# Altium schematic symbol library module_dc2dc_iso.SchLib: 183 symbols (part 2 of 2)
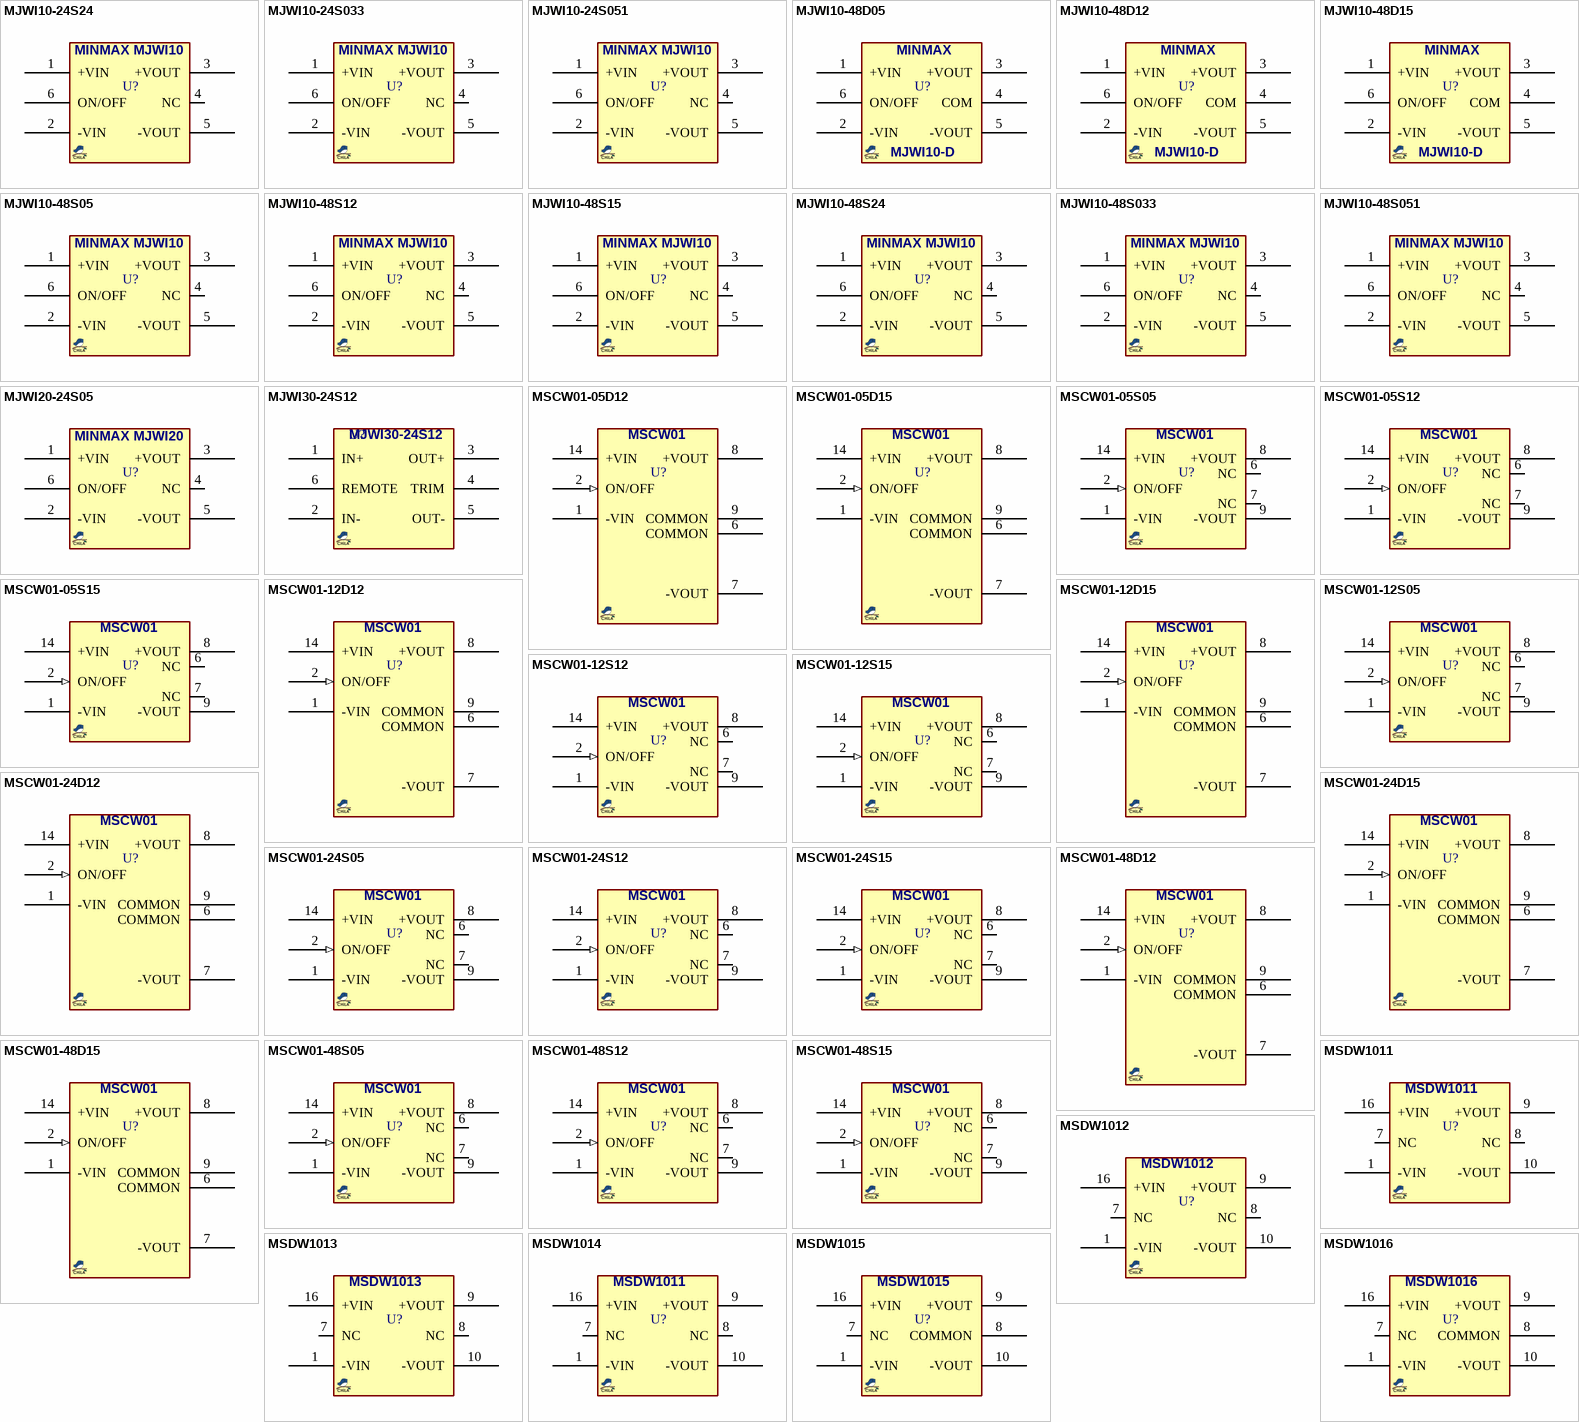
[diagram p5: symbols MJWI10-24S24 to MSDW1016]

## MJWI10-48S15
designator U?  (value not drawn)
DC-DC Converter, Isolated, 10W; MANF: MINMAX; PARAM2: 18~75(48)Vin, 15Vout, 10W; PARAM: 660mA, -40~80°C; DESC: https://www.minmax.com.tw/en/download/files/546/MJWI10_Datasheet.pdf; MANF_P#: MJWI10-48S15; VALUE: MJWI10-48S15
footprint MINMAX_MJWI10 (DC-DC Module, 25.4X25.4mm, =PDQ15-D)
pins: 1 +VIN, 2 -VIN, 3 +VOUT, 4 NC, 5 -VOUT, 6 ON/OFF
text: MINMAX MJWI10

## MJWI10-48S24
designator U?  (value not drawn)
DC-DC Converter, Isolated, 10W; MANF: MINMAX; PARAM2: 18~75(48)Vin, 24Vout, 10W; PARAM: 410mA, -40~80°C; DESC: https://www.minmax.com.tw/en/download/files/546/MJWI10_Datasheet.pdf; MANF_P#: MJWI10-48S24; VALUE: MJWI10-48S24
footprint MINMAX_MJWI10 (DC-DC Module, 25.4X25.4mm, =PDQ15-D)
pins: 1 +VIN, 2 -VIN, 3 +VOUT, 4 NC, 5 -VOUT, 6 ON/OFF
text: MINMAX MJWI10

## MJWI10-48S033
designator U?  (value not drawn)
DC-DC Converter, Isolated, 10W; MANF: MINMAX; PARAM2: 18~75(48)Vin, 3.3Vout, 10W; PARAM: 2200mA, -40~80°C; DESC: https://www.minmax.com.tw/en/download/files/546/MJWI10_Datasheet.pdf; MANF_P#: MJWI10-48S033; VALUE: MJWI10-48S033
footprint MINMAX_MJWI10 (DC-DC Module, 25.4X25.4mm, =PDQ15-D)
pins: 1 +VIN, 2 -VIN, 3 +VOUT, 4 NC, 5 -VOUT, 6 ON/OFF
text: MINMAX MJWI10

## MJWI10-48S051
designator U?  (value not drawn)
DC-DC Converter, Isolated, 10W; MANF: MINMAX; PARAM2: 18~75(48)Vin, 5.1Vout, 10W; PARAM: 2000mA, -40~80°C; DESC: https://www.minmax.com.tw/en/download/files/546/MJWI10_Datasheet.pdf; MANF_P#: MJWI10-48S051; VALUE: MJWI10-48S051
footprint MINMAX_MJWI10 (DC-DC Module, 25.4X25.4mm, =PDQ15-D)
pins: 1 +VIN, 2 -VIN, 3 +VOUT, 4 NC, 5 -VOUT, 6 ON/OFF
text: MINMAX MJWI10

## MJWI20-24S05
designator U?  (value not drawn)
DC-DC Converter, Isolated, 20W; MANF: MINMAX; PARAM2: 9~36(24)Vin, 5Vout, 20W; PARAM: 4000mA, -40~85°C; DESC: https://www.minmax.com.tw/en/download/files/601/MJWI20_Datasheet.pdf; MANF_P#: MJWI20-24S05; VALUE: MJWI20-24S05
footprint MINMAX_MJWI20 (DC-DC Module, 25.4X25.4mm, =PDQ15-D)
pins: 1 +VIN, 2 -VIN, 3 +VOUT, 4 NC, 5 -VOUT, 6 ON/OFF
text: MINMAX MJWI20

## MJWI30-24S12
designator U?  (value not drawn)
DC-DC Converter, Isolated, 30W, 9~36V IN; MANF: MINMAX; PARAM2: 9~36V IN, 12Vout, 30Watt; PARAM: 2.5A, –40~105°C; PRICE: 30$; MANF_P#: MJWI30-24S12; VALUE: MJWI30-24S12
footprint MINMAX_MJWI10 (DC-DC Module, 25.4X25.4mm, =PDQ15-D)
pins: 1 IN+ (power), 2 IN- (power), 3 OUT+ (power), 4 TRIM, 5 OUT- (power), 6 REMOTE

## MSCW01-05D12
designator U?  (value not drawn)
DC-DC Converter, Isolated, 1W; MANF: MinMax; PARAM2: 4.5~9(5)Vin, ±12Vout, 1W; PARAM: ±42mA, -40~85°C; DESC: https://www.minmax.com.tw/en/download/files/354/MSCW01_Datasheet.pdf; MANF_P#: MSCW01-05D12; VALUE: MSCW01-05D12
footprint MINMAX_MSCW01 (DC-DC Module, MINMAX MSCW01)
pins: 1 -VIN, 2 ON/OFF (in), 6 COMMON, 7 -VOUT, 8 +VOUT, 9 COMMON, 14 +VIN
text: MSCW01

## MSCW01-05D15
designator U?  (value not drawn)
DC-DC Converter, Isolated, 1W; MANF: MinMax; PARAM2: 4.5~9(5)Vin, ±15Vout, 1W; PARAM: ±33mA, -40~85°C; DESC: https://www.minmax.com.tw/en/download/files/354/MSCW01_Datasheet.pdf; MANF_P#: MSCW01-05D15; VALUE: MSCW01-05D15
footprint MINMAX_MSCW01 (DC-DC Module, MINMAX MSCW01)
pins: 1 -VIN, 2 ON/OFF (in), 6 COMMON, 7 -VOUT, 8 +VOUT, 9 COMMON, 14 +VIN
text: MSCW01

## MSCW01-05S05
designator U?  (value not drawn)
DC-DC Converter, Isolated, 1W; MANF: MinMax; PARAM2: 4.5~9(5)Vin, 5Vout, 1W; PARAM: 200mA, -40~85°C; DESC: https://www.minmax.com.tw/en/download/files/354/MSCW01_Datasheet.pdf; MANF_P#: MSCW01-05S05; VALUE: MSCW01-05S05
footprint MINMAX_MSCW01 (DC-DC Module, MINMAX MSCW01)
pins: 1 -VIN, 2 ON/OFF (in), 6 NC, 7 NC, 8 +VOUT, 9 -VOUT, 14 +VIN
text: MSCW01

## MSCW01-05S12
designator U?  (value not drawn)
DC-DC Converter, Isolated, 1W; MANF: MinMax; PARAM2: 4.5~9(5)Vin, 12Vout, 1W; PARAM: 83mA, -40~85°C; DESC: https://www.minmax.com.tw/en/download/files/354/MSCW01_Datasheet.pdf; MANF_P#: MSCW01-05S12; VALUE: MSCW01-05S12
footprint MINMAX_MSCW01 (DC-DC Module, MINMAX MSCW01)
pins: 1 -VIN, 2 ON/OFF (in), 6 NC, 7 NC, 8 +VOUT, 9 -VOUT, 14 +VIN
text: MSCW01

## MSCW01-05S15
designator U?  (value not drawn)
DC-DC Converter, Isolated, 1W; MANF: MinMax; PARAM2: 4.5~9(5)Vin, 15Vout, 1W; PARAM: 67mA, -40~85°C; DESC: https://www.minmax.com.tw/en/download/files/354/MSCW01_Datasheet.pdf; MANF_P#: MSCW01-05S15; VALUE: MSCW01-05S15
footprint MINMAX_MSCW01 (DC-DC Module, MINMAX MSCW01)
pins: 1 -VIN, 2 ON/OFF (in), 6 NC, 7 NC, 8 +VOUT, 9 -VOUT, 14 +VIN
text: MSCW01

## MSCW01-12D12
designator U?  (value not drawn)
DC-DC Converter, Isolated, 1W; MANF: MinMax; PARAM2: 9~18(12)Vin, ±12Vout, 1W; PARAM: ±42mA, -40~85°C; DESC: https://www.minmax.com.tw/en/download/files/354/MSCW01_Datasheet.pdf; MANF_P#: MSCW01-12D12; VALUE: MSCW01-12D12
footprint MINMAX_MSCW01 (DC-DC Module, MINMAX MSCW01)
pins: 1 -VIN, 2 ON/OFF (in), 6 COMMON, 7 -VOUT, 8 +VOUT, 9 COMMON, 14 +VIN
text: MSCW01

## MSCW01-12D15
designator U?  (value not drawn)
DC-DC Converter, Isolated, 1W; MANF: MinMax; PARAM2: 9~18(12)Vin, ±15Vout, 1W; PARAM: ±33mA, -40~85°C; DESC: https://www.minmax.com.tw/en/download/files/354/MSCW01_Datasheet.pdf; MANF_P#: MSCW01-12D15; VALUE: MSCW01-12D15
footprint MINMAX_MSCW01 (DC-DC Module, MINMAX MSCW01)
pins: 1 -VIN, 2 ON/OFF (in), 6 COMMON, 7 -VOUT, 8 +VOUT, 9 COMMON, 14 +VIN
text: MSCW01

## MSCW01-12S05
designator U?  (value not drawn)
DC-DC Converter, Isolated, 1W; MANF: MinMax; PARAM2: 9~18(12)Vin, 5Vout, 1W; PARAM: 200mA, -40~85°C; DESC: https://www.minmax.com.tw/en/download/files/354/MSCW01_Datasheet.pdf; MANF_P#: MSCW01-12S05; VALUE: MSCW01-12S05
footprint MINMAX_MSCW01 (DC-DC Module, MINMAX MSCW01)
pins: 1 -VIN, 2 ON/OFF (in), 6 NC, 7 NC, 8 +VOUT, 9 -VOUT, 14 +VIN
text: MSCW01

## MSCW01-12S12
designator U?  (value not drawn)
DC-DC Converter, Isolated, 1W; MANF: MinMax; PARAM2: 9~18(12)Vin, 12Vout, 1W; PARAM: 83mA, -40~85°C; DESC: https://www.minmax.com.tw/en/download/files/354/MSCW01_Datasheet.pdf; MANF_P#: MSCW01-12S12; VALUE: MSCW01-12S12
footprint MINMAX_MSCW01 (DC-DC Module, MINMAX MSCW01)
pins: 1 -VIN, 2 ON/OFF (in), 6 NC, 7 NC, 8 +VOUT, 9 -VOUT, 14 +VIN
text: MSCW01

## MSCW01-12S15
designator U?  (value not drawn)
DC-DC Converter, Isolated, 1W; MANF: MinMax; PARAM2: 9~18(12)Vin, 15Vout, 1W; PARAM: 67mA, -40~85°C; DESC: https://www.minmax.com.tw/en/download/files/354/MSCW01_Datasheet.pdf; MANF_P#: MSCW01-12S15; VALUE: MSCW01-12S15
footprint MINMAX_MSCW01 (DC-DC Module, MINMAX MSCW01)
pins: 1 -VIN, 2 ON/OFF (in), 6 NC, 7 NC, 8 +VOUT, 9 -VOUT, 14 +VIN
text: MSCW01

## MSCW01-24D12
designator U?  (value not drawn)
DC-DC Converter, Isolated, 1W; MANF: MinMax; PARAM2: 18~36(24)Vin, ±12Vout, 1W; PARAM: ±42mA, -40~85°C; DESC: https://www.minmax.com.tw/en/download/files/354/MSCW01_Datasheet.pdf; MANF_P#: MSCW01-24D12; VALUE: MSCW01-24D12
footprint MINMAX_MSCW01 (DC-DC Module, MINMAX MSCW01)
pins: 1 -VIN, 2 ON/OFF (in), 6 COMMON, 7 -VOUT, 8 +VOUT, 9 COMMON, 14 +VIN
text: MSCW01

## MSCW01-24D15
designator U?  (value not drawn)
DC-DC Converter, Isolated, 1W; MANF: MinMax; PARAM2: 18~36(24)Vin, ±15Vout, 1W; PARAM: ±33mA, -40~85°C; DESC: https://www.minmax.com.tw/en/download/files/354/MSCW01_Datasheet.pdf; MANF_P#: MSCW01-24D15; VALUE: MSCW01-24D15
footprint MINMAX_MSCW01 (DC-DC Module, MINMAX MSCW01)
pins: 1 -VIN, 2 ON/OFF (in), 6 COMMON, 7 -VOUT, 8 +VOUT, 9 COMMON, 14 +VIN
text: MSCW01

## MSCW01-24S05
designator U?  (value not drawn)
DC-DC Converter, Isolated, 1W; MANF: MinMax; PARAM2: 18~36(24)Vin, 5Vout, 1W; PARAM: 200mA, -40~85°C; DESC: https://www.minmax.com.tw/en/download/files/354/MSCW01_Datasheet.pdf; MANF_P#: MSCW01-24S05; VALUE: MSCW01-24S05
footprint MINMAX_MSCW01 (DC-DC Module, MINMAX MSCW01)
pins: 1 -VIN, 2 ON/OFF (in), 6 NC, 7 NC, 8 +VOUT, 9 -VOUT, 14 +VIN
text: MSCW01

## MSCW01-24S12
designator U?  (value not drawn)
DC-DC Converter, Isolated, 1W; MANF: MinMax; PARAM2: 18~36(24)Vin, 12Vout, 1W; PARAM: 83mA, -40~85°C; DESC: https://www.minmax.com.tw/en/download/files/354/MSCW01_Datasheet.pdf; MANF_P#: MSCW01-24S12; VALUE: MSCW01-24S12
footprint MINMAX_MSCW01 (DC-DC Module, MINMAX MSCW01)
pins: 1 -VIN, 2 ON/OFF (in), 6 NC, 7 NC, 8 +VOUT, 9 -VOUT, 14 +VIN
text: MSCW01

## MSCW01-24S15
designator U?  (value not drawn)
DC-DC Converter, Isolated, 1W; MANF: MinMax; PARAM2: 18~36(24)Vin, 15Vout, 1W; PARAM: 67mA, -40~85°C; DESC: https://www.minmax.com.tw/en/download/files/354/MSCW01_Datasheet.pdf; MANF_P#: MSCW01-24S15; VALUE: MSCW01-24S15
footprint MINMAX_MSCW01 (DC-DC Module, MINMAX MSCW01)
pins: 1 -VIN, 2 ON/OFF (in), 6 NC, 7 NC, 8 +VOUT, 9 -VOUT, 14 +VIN
text: MSCW01

## MSCW01-48D12
designator U?  (value not drawn)
DC-DC Converter, Isolated, 1W; MANF: MinMax; PARAM2: 36~75(48)Vin, ±12Vout, 1W; PARAM: ±42mA, -40~85°C; DESC: https://www.minmax.com.tw/en/download/files/354/MSCW01_Datasheet.pdf; MANF_P#: MSCW01-48D12; VALUE: MSCW01-48D12
footprint MINMAX_MSCW01 (DC-DC Module, MINMAX MSCW01)
pins: 1 -VIN, 2 ON/OFF (in), 6 COMMON, 7 -VOUT, 8 +VOUT, 9 COMMON, 14 +VIN
text: MSCW01

## MSCW01-48D15
designator U?  (value not drawn)
DC-DC Converter, Isolated, 1W; MANF: MinMax; PARAM2: 36~75(48)Vin, ±15Vout, 1W; PARAM: ±33mA, -40~85°C; DESC: https://www.minmax.com.tw/en/download/files/354/MSCW01_Datasheet.pdf; MANF_P#: MSCW01-48D15; VALUE: MSCW01-48D15
footprint MINMAX_MSCW01 (DC-DC Module, MINMAX MSCW01)
pins: 1 -VIN, 2 ON/OFF (in), 6 COMMON, 7 -VOUT, 8 +VOUT, 9 COMMON, 14 +VIN
text: MSCW01

## MSCW01-48S05
designator U?  (value not drawn)
DC-DC Converter, Isolated, 1W; MANF: MinMax; PARAM2: 36~75(48)Vin, 5Vout, 1W; PARAM: 200mA, -40~85°C; DESC: https://www.minmax.com.tw/en/download/files/354/MSCW01_Datasheet.pdf; MANF_P#: MSCW01-48S05; VALUE: MSCW01-48S05
footprint MINMAX_MSCW01 (DC-DC Module, MINMAX MSCW01)
pins: 1 -VIN, 2 ON/OFF (in), 6 NC, 7 NC, 8 +VOUT, 9 -VOUT, 14 +VIN
text: MSCW01

## MSCW01-48S12
designator U?  (value not drawn)
DC-DC Converter, Isolated, 1W; MANF: MinMax; PARAM2: 36~75(48)Vin, 12Vout, 1W; PARAM: 83mA, -40~85°C; DESC: https://www.minmax.com.tw/en/download/files/354/MSCW01_Datasheet.pdf; MANF_P#: MSCW01-48S12; VALUE: MSCW01-48S12
footprint MINMAX_MSCW01 (DC-DC Module, MINMAX MSCW01)
pins: 1 -VIN, 2 ON/OFF (in), 6 NC, 7 NC, 8 +VOUT, 9 -VOUT, 14 +VIN
text: MSCW01

## MSCW01-48S15
designator U?  (value not drawn)
DC-DC Converter, Isolated, 1W; MANF: MinMax; PARAM2: 36~75(48)Vin, 15Vout, 1W; PARAM: 67mA, -40~85°C; DESC: https://www.minmax.com.tw/en/download/files/354/MSCW01_Datasheet.pdf; MANF_P#: MSCW01-48S15; VALUE: MSCW01-48S15
footprint MINMAX_MSCW01 (DC-DC Module, MINMAX MSCW01)
pins: 1 -VIN, 2 ON/OFF (in), 6 NC, 7 NC, 8 +VOUT, 9 -VOUT, 14 +VIN
text: MSCW01

## MSDW1011
designator U?  (value not drawn)
DC-DC Converter, Isolated, 2W, MSDW1000; MANF: MinMax; PARAM2: 4.5~9(5)Vin, 3.3Vout, 2W; PARAM: 500mA, -40~85°C; DESC: https://www.minmax.com.tw/en/download/files/368/MSDW1000_Datasheet.pdf; MANF_P#: MSDW1011; VALUE: MSDW1011
footprint MINMAX_MSDW1000 (DC-DC Module, MINMAX MSDW1000)
pins: 1 -VIN, 7 NC, 8 NC, 9 +VOUT, 10 -VOUT, 16 +VIN

## MSDW1012
designator U?  (value not drawn)
DC-DC Converter, Isolated, 2W, MSDW1000; MANF: MinMax; PARAM2: 4.5~9(5)Vin, 5Vout, 2W; PARAM: 400mA, -40~85°C; DESC: https://www.minmax.com.tw/en/download/files/368/MSDW1000_Datasheet.pdf; MANF_P#: MSDW1012; VALUE: MSDW1012
footprint MINMAX_MSDW1000 (DC-DC Module, MINMAX MSDW1000)
pins: 1 -VIN, 7 NC, 8 NC, 9 +VOUT, 10 -VOUT, 16 +VIN

## MSDW1013
designator U?  (value not drawn)
DC-DC Converter, Isolated, 2W, MSDW1000; MANF: MinMax; PARAM2: 4.5~9(5)Vin, 12Vout, 2W; PARAM: 167mA, -40~85°C; DESC: https://www.minmax.com.tw/en/download/files/368/MSDW1000_Datasheet.pdf; MANF_P#: MSDW1013; VALUE: MSDW1013
footprint MINMAX_MSDW1000 (DC-DC Module, MINMAX MSDW1000)
pins: 1 -VIN, 7 NC, 8 NC, 9 +VOUT, 10 -VOUT, 16 +VIN

## MSDW1014
designator U?  (value not drawn)
DC-DC Converter, Isolated, 2W, MSDW1000; MANF: MinMax; PARAM2: 4.5~9(5)Vin, 15Vout, 2W; PARAM: 134mA, -40~85°C; DESC: https://www.minmax.com.tw/en/download/files/368/MSDW1000_Datasheet.pdf; MANF_P#: MSDW1014; VALUE: MSDW1014
footprint MINMAX_MSDW1000 (DC-DC Module, MINMAX MSDW1000)
pins: 1 -VIN, 7 NC, 8 NC, 9 +VOUT, 10 -VOUT, 16 +VIN
text: MSDW1011

## MSDW1015
designator U?  (value not drawn)
DC-DC Converter, Isolated, 2W, MSDW1000; MANF: MinMax; PARAM2: 4.5~9(5)Vin, ±5Vout, 2W; PARAM: ±200mA, -40~85°C; DESC: https://www.minmax.com.tw/en/download/files/368/MSDW1000_Datasheet.pdf; MANF_P#: MSDW1015; VALUE: MSDW1015
footprint MINMAX_MSDW1000 (DC-DC Module, MINMAX MSDW1000)
pins: 1 -VIN, 7 NC, 8 COMMON, 9 +VOUT, 10 -VOUT, 16 +VIN

## MSDW1016
designator U?  (value not drawn)
DC-DC Converter, Isolated, MSDW1000, 2W; MANF: MinMax; PARAM2: 4.5~9(5)Vin, ±12Vout, 2W; PARAM: ±83mA, -40~85°C; DESC: https://www.minmax.com.tw/en/download/files/368/MSDW1000_Datasheet.pdf; MANF_P#: MSDW1016; VALUE: MSDW1016
footprint MINMAX_MSDW1000 (DC-DC Module, MINMAX MSDW1000)
pins: 1 -VIN, 7 NC, 8 COMMON, 9 +VOUT, 10 -VOUT, 16 +VIN

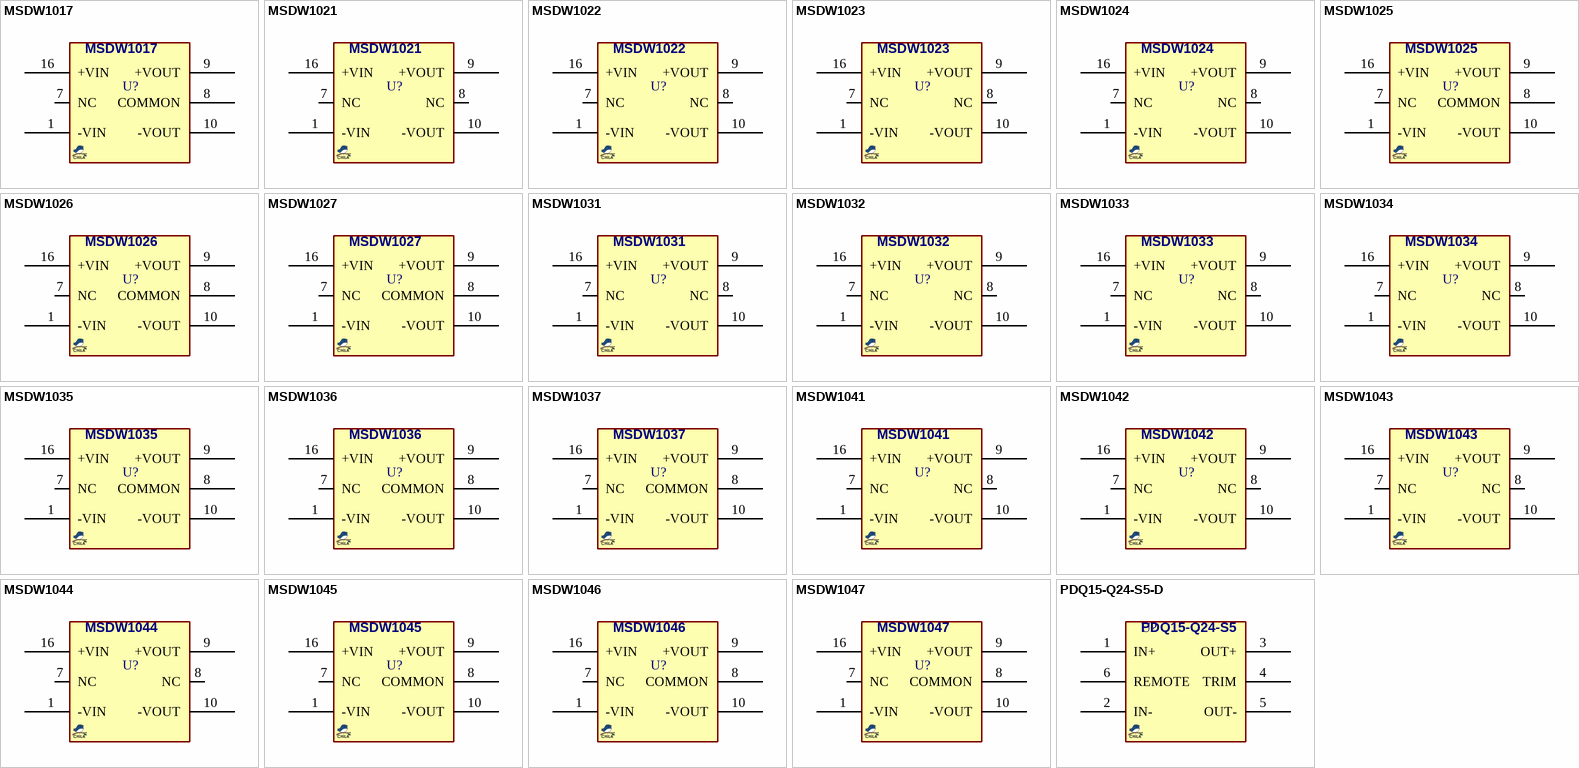
[diagram p4: symbols MSDW1017 to PDQ15-Q24-S5-D]

## MSDW1017
designator U?  (value not drawn)
DC-DC Converter, Isolated, MSDW1000, 2W; MANF: MinMax; PARAM2: 4.5~9(5)Vin, ±15Vout, 2W; PARAM: ±67mA, -40~85°C; DESC: https://www.minmax.com.tw/en/download/files/368/MSDW1000_Datasheet.pdf; MANF_P#: MSDW1017; VALUE: MSDW1017
footprint MINMAX_MSDW1000 (DC-DC Module, MINMAX MSDW1000)
pins: 1 -VIN, 7 NC, 8 COMMON, 9 +VOUT, 10 -VOUT, 16 +VIN

## MSDW1021
designator U?  (value not drawn)
DC-DC Converter, Isolated, MSDW1000, 2W; MANF: MinMax; PARAM2: 9~18(12)Vin, 3.3Vout, 2W; PARAM: 500mA, -40~85°C; DESC: https://www.minmax.com.tw/en/download/files/368/MSDW1000_Datasheet.pdf; MANF_P#: MSDW1021; VALUE: MSDW1021
footprint MINMAX_MSDW1000 (DC-DC Module, MINMAX MSDW1000)
pins: 1 -VIN, 7 NC, 8 NC, 9 +VOUT, 10 -VOUT, 16 +VIN

## MSDW1022
designator U?  (value not drawn)
DC-DC Converter, Isolated, MSDW1000, 2W; MANF: MinMax; PARAM2: 9~18(12)Vin, 5Vout, 2W; PARAM: 400mA, -40~85°C; DESC: https://www.minmax.com.tw/en/download/files/368/MSDW1000_Datasheet.pdf; MANF_P#: MSDW1022; VALUE: MSDW1022
footprint MINMAX_MSDW1000 (DC-DC Module, MINMAX MSDW1000)
pins: 1 -VIN, 7 NC, 8 NC, 9 +VOUT, 10 -VOUT, 16 +VIN

## MSDW1023
designator U?  (value not drawn)
DC-DC Converter, Isolated, MSDW1000, 2W; MANF: MinMax; PARAM2: 9~18(12)Vin, 12Vout, 2W; PARAM: 167mA, -40~85°C; DESC: https://www.minmax.com.tw/en/download/files/368/MSDW1000_Datasheet.pdf; MANF_P#: MSDW1023; VALUE: MSDW1023
footprint MINMAX_MSDW1000 (DC-DC Module, MINMAX MSDW1000)
pins: 1 -VIN, 7 NC, 8 NC, 9 +VOUT, 10 -VOUT, 16 +VIN

## MSDW1024
designator U?  (value not drawn)
DC-DC Converter, Isolated, MSDW1000, 2W; MANF: MinMax; PARAM2: 9~18(12)Vin, 15Vout, 2W; PARAM: 134mA, -40~85°C; DESC: https://www.minmax.com.tw/en/download/files/368/MSDW1000_Datasheet.pdf; MANF_P#: MSDW1024; VALUE: MSDW1024
footprint MINMAX_MSDW1000 (DC-DC Module, MINMAX MSDW1000)
pins: 1 -VIN, 7 NC, 8 NC, 9 +VOUT, 10 -VOUT, 16 +VIN

## MSDW1025
designator U?  (value not drawn)
DC-DC Converter, Isolated, MSDW1000, 2W; MANF: MinMax; PARAM2: 9~18(12)Vin, ±5Vout, 2W; PARAM: 200mA, -40~85°C; DESC: https://www.minmax.com.tw/en/download/files/368/MSDW1000_Datasheet.pdf; MANF_P#: MSDW1025; VALUE: MSDW1025
footprint MINMAX_MSDW1000 (DC-DC Module, MINMAX MSDW1000)
pins: 1 -VIN, 7 NC, 8 COMMON, 9 +VOUT, 10 -VOUT, 16 +VIN

## MSDW1026
designator U?  (value not drawn)
DC-DC Converter, Isolated, MSDW1000, 2W; MANF: MinMax; PARAM2: 9~18(12)Vin, ±12Vout, 2W; PARAM: ±83mA, -40~85°C; DESC: https://www.minmax.com.tw/en/download/files/368/MSDW1000_Datasheet.pdf; MANF_P#: MSDW1026; VALUE: MSDW1026
footprint MINMAX_MSDW1000 (DC-DC Module, MINMAX MSDW1000)
pins: 1 -VIN, 7 NC, 8 COMMON, 9 +VOUT, 10 -VOUT, 16 +VIN

## MSDW1027
designator U?  (value not drawn)
DC-DC Converter, Isolated, MSDW1000, 2W; MANF: MinMax; PARAM2: 9~18(12)Vin, ±15Vout, 2W; PARAM: ±67mA, -40~85°C; DESC: https://www.minmax.com.tw/en/download/files/368/MSDW1000_Datasheet.pdf; MANF_P#: MSDW1027; VALUE: MSDW1027
footprint MINMAX_MSDW1000 (DC-DC Module, MINMAX MSDW1000)
pins: 1 -VIN, 7 NC, 8 COMMON, 9 +VOUT, 10 -VOUT, 16 +VIN

## MSDW1031
designator U?  (value not drawn)
DC-DC Converter, Isolated, MSDW1000, 2W; MANF: MinMax; PARAM2: 18~36(24)Vin, 3.3Vout, 2W; PARAM: 500mA, -40~85°C; DESC: https://www.minmax.com.tw/en/download/files/368/MSDW1000_Datasheet.pdf; MANF_P#: MSDW1031; VALUE: MSDW1031
footprint MINMAX_MSDW1000 (DC-DC Module, MINMAX MSDW1000)
pins: 1 -VIN, 7 NC, 8 NC, 9 +VOUT, 10 -VOUT, 16 +VIN

## MSDW1032
designator U?  (value not drawn)
DC-DC Converter, Isolated, MSDW1000, 2W; MANF: MinMax; PARAM2: 18~36(24)Vin, 5Vout, 2W; PARAM: 400mA, -40~85°C; DESC: https://www.minmax.com.tw/en/download/files/368/MSDW1000_Datasheet.pdf; MANF_P#: MSDW1032; VALUE: MSDW1032
footprint MINMAX_MSDW1000 (DC-DC Module, MINMAX MSDW1000)
pins: 1 -VIN, 7 NC, 8 NC, 9 +VOUT, 10 -VOUT, 16 +VIN

## MSDW1033
designator U?  (value not drawn)
DC-DC Converter, Isolated, MSDW1000, 2W; MANF: MinMax; PARAM2: 18~36(24)Vin, 12Vout, 2W; PARAM: 167mA, -40~85°C; DESC: https://www.minmax.com.tw/en/download/files/368/MSDW1000_Datasheet.pdf; MANF_P#: MSDW1033; VALUE: MSDW1033
footprint MINMAX_MSDW1000 (DC-DC Module, MINMAX MSDW1000)
pins: 1 -VIN, 7 NC, 8 NC, 9 +VOUT, 10 -VOUT, 16 +VIN

## MSDW1034
designator U?  (value not drawn)
DC-DC Converter, Isolated, MSDW1000, 2W; MANF: MinMax; PARAM2: 18~36(24)Vin, 15Vout, 2W; PARAM: 134mA, -40~85°C; DESC: https://www.minmax.com.tw/en/download/files/368/MSDW1000_Datasheet.pdf; MANF_P#: MSDW1034; VALUE: MSDW1034
footprint MINMAX_MSDW1000 (DC-DC Module, MINMAX MSDW1000)
pins: 1 -VIN, 7 NC, 8 NC, 9 +VOUT, 10 -VOUT, 16 +VIN

## MSDW1035
designator U?  (value not drawn)
DC-DC Converter, Isolated, MSDW1000, 2W; MANF: MinMax; PARAM2: 18~36(24)Vin, ±5Vout, 2W; PARAM: ±200mA, -40~85°C; DESC: https://www.minmax.com.tw/en/download/files/368/MSDW1000_Datasheet.pdf; MANF_P#: MSDW1035; VALUE: MSDW1035
footprint MINMAX_MSDW1000 (DC-DC Module, MINMAX MSDW1000)
pins: 1 -VIN, 7 NC, 8 COMMON, 9 +VOUT, 10 -VOUT, 16 +VIN

## MSDW1036
designator U?  (value not drawn)
DC-DC Converter, Isolated, MSDW1000, 2W; MANF: MinMax; PARAM2: 18~36(24)Vin, ±12Vout, 2W; PARAM: ±83mA, -40~85°C; DESC: https://www.minmax.com.tw/en/download/files/368/MSDW1000_Datasheet.pdf; MANF_P#: MSDW1036; VALUE: MSDW1036
footprint MINMAX_MSDW1000 (DC-DC Module, MINMAX MSDW1000)
pins: 1 -VIN, 7 NC, 8 COMMON, 9 +VOUT, 10 -VOUT, 16 +VIN

## MSDW1037
designator U?  (value not drawn)
DC-DC Converter, Isolated, MSDW1000, 2W; MANF: MinMax; PARAM2: 18~36(24)Vin, ±15Vout, 2W; PARAM: ±67mA, -40~85°C; DESC: https://www.minmax.com.tw/en/download/files/368/MSDW1000_Datasheet.pdf; MANF_P#: MSDW1037; VALUE: MSDW1037
footprint MINMAX_MSDW1000 (DC-DC Module, MINMAX MSDW1000)
pins: 1 -VIN, 7 NC, 8 COMMON, 9 +VOUT, 10 -VOUT, 16 +VIN

## MSDW1041
designator U?  (value not drawn)
DC-DC Converter, Isolated, MSDW1000, 2W; MANF: MinMax; PARAM2: 36~75(48)Vin, 3.3Vout, 2W; PARAM: 500mA, -40~85°C; DESC: https://www.minmax.com.tw/en/download/files/368/MSDW1000_Datasheet.pdf; MANF_P#: MSDW1041; VALUE: MSDW1041
footprint MINMAX_MSDW1000 (DC-DC Module, MINMAX MSDW1000)
pins: 1 -VIN, 7 NC, 8 NC, 9 +VOUT, 10 -VOUT, 16 +VIN

## MSDW1042
designator U?  (value not drawn)
DC-DC Converter, Isolated, MSDW1000, 2W; MANF: MinMax; PARAM2: 36~75(48)Vin, 5Vout, 2W; PARAM: 400mA, -40~85°C; DESC: https://www.minmax.com.tw/en/download/files/368/MSDW1000_Datasheet.pdf; MANF_P#: MSDW1042; VALUE: MSDW1042
footprint MINMAX_MSDW1000 (DC-DC Module, MINMAX MSDW1000)
pins: 1 -VIN, 7 NC, 8 NC, 9 +VOUT, 10 -VOUT, 16 +VIN

## MSDW1043
designator U?  (value not drawn)
DC-DC Converter, Isolated, MSDW1000, 2W; MANF: MinMax; PARAM2: 36~75(48)Vin, 12Vout, 2W; PARAM: 167mA, -40~85°C; DESC: https://www.minmax.com.tw/en/download/files/368/MSDW1000_Datasheet.pdf; MANF_P#: MSDW1043; VALUE: MSDW1043
footprint MINMAX_MSDW1000 (DC-DC Module, MINMAX MSDW1000)
pins: 1 -VIN, 7 NC, 8 NC, 9 +VOUT, 10 -VOUT, 16 +VIN

## MSDW1044
designator U?  (value not drawn)
DC-DC Converter, Isolated, MSDW1000, 2W; MANF: MinMax; PARAM2: 36~75(48)Vin, 15Vout, 2W; PARAM: 134mA, -40~85°C; DESC: https://www.minmax.com.tw/en/download/files/368/MSDW1000_Datasheet.pdf; MANF_P#: MSDW1044; VALUE: MSDW1044
footprint MINMAX_MSDW1000 (DC-DC Module, MINMAX MSDW1000)
pins: 1 -VIN, 7 NC, 8 NC, 9 +VOUT, 10 -VOUT, 16 +VIN

## MSDW1045
designator U?  (value not drawn)
DC-DC Converter, Isolated, MSDW1000, 2W; MANF: MinMax; PARAM2: 36~75(48)Vin, ±5Vout, 2W; PARAM: ±200mA, -40~85°C; DESC: https://www.minmax.com.tw/en/download/files/368/MSDW1000_Datasheet.pdf; MANF_P#: MSDW1045; VALUE: MSDW1045
footprint MINMAX_MSDW1000 (DC-DC Module, MINMAX MSDW1000)
pins: 1 -VIN, 7 NC, 8 COMMON, 9 +VOUT, 10 -VOUT, 16 +VIN

## MSDW1046
designator U?  (value not drawn)
DC-DC Converter, Isolated, MSDW1000, 2W; MANF: MinMax; PARAM2: 36~75(48)Vin, ±12Vout, 2W; PARAM: ±83mA, -40~85°C; DESC: https://www.minmax.com.tw/en/download/files/368/MSDW1000_Datasheet.pdf; MANF_P#: MSDW1046; VALUE: MSDW1046
footprint MINMAX_MSDW1000 (DC-DC Module, MINMAX MSDW1000)
pins: 1 -VIN, 7 NC, 8 COMMON, 9 +VOUT, 10 -VOUT, 16 +VIN

## MSDW1047
designator U?  (value not drawn)
DC-DC Converter, Isolated, MSDW1000, 2W; MANF: MinMax; PARAM2: 36~75(48)Vin, ±15Vout, 2W; PARAM: ±67mA, -40~85°C; DESC: https://www.minmax.com.tw/en/download/files/368/MSDW1000_Datasheet.pdf; MANF_P#: MSDW1047; VALUE: MSDW1047
footprint MINMAX_MSDW1000 (DC-DC Module, MINMAX MSDW1000)
pins: 1 -VIN, 7 NC, 8 COMMON, 9 +VOUT, 10 -VOUT, 16 +VIN

## PDQ15-Q24-S5-D
designator U?  (value not drawn)
DC-DC Converter, Isolated, 15W, 9~36V IN , 3A; MANF: CUI; PARAM2: 9~36V IN, 5Vout, 15Watt; PARAM: 3A, –40~105°C; PRICE: 30$; MANF_P#: PDQ15-Q24-S5-D; VALUE: PDQ15-Q24-S5-D
footprint PDQ15D (DC-DC Module, 25.4X25.4mm, =MJWI10)
pins: 1 IN+ (power), 2 IN- (power), 3 OUT+ (power), 4 TRIM, 5 OUT- (power), 6 REMOTE
text: PDQ15-Q24-S5